# Altium footprint library 栅格端子.PcbLib: 1 footprints
Each footprint in its own frame and in the unit in brackets; x right, y up, seen from the top. Pads: shape width x height; smd on the part's side, far side on the other; paste and mask are expansions set on the pad; w line width, h text height; cw(c..) or ccw(c..) is an arc to the next point about the centre after c.
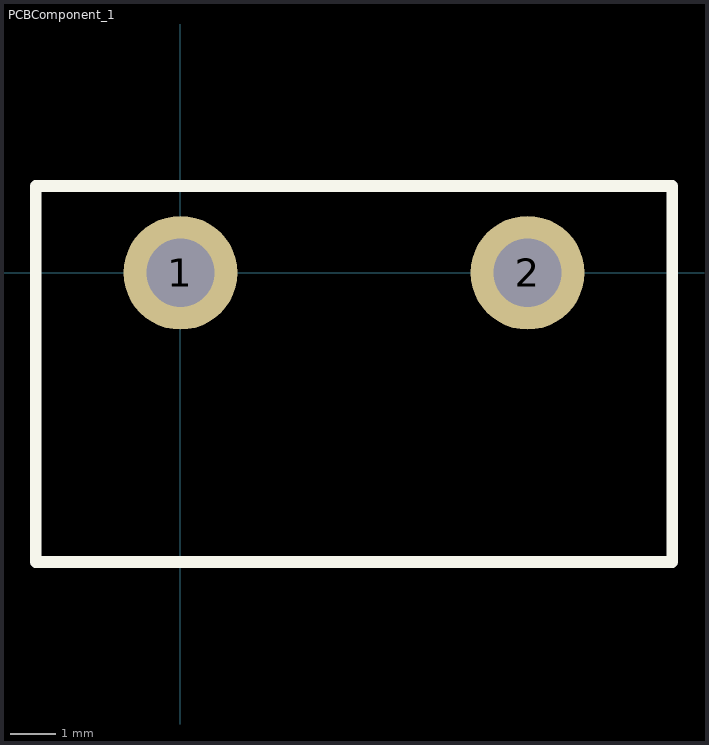
[diagram p0: the footprint, top view; thin cyan lines are the x and y axes]

## PCBComponent_1 [mm]
pads (2):
  round 2.5 hole 1.5: 1(0,0) 2(7.62,0)
Top Overlay:
  lines w0.254: -3.175,-6.35 -3.175,1.905 10.795,1.905 10.795,-6.35 -3.175,-6.35